# EAGLE library part MCP6022 (library PCB_KioskMB_r3.3-05)
OPAMP 10MHz Vofset=0.5V
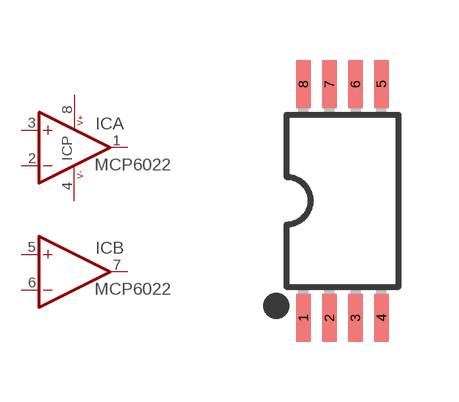
[diagram p16: symbol with the pads of TSSOP8; footprint TSSOP8]

Designator prefix IC; gates A=OPAMP B=OPAMP P=PWR+-

## MCP6022-I/ST  [TSSOP8]
1  A:OUT  out
2  A:-IN  in
3  A:+IN  in
4  P:V-  pwr
5  B:+IN  in
6  B:-IN  in
7  B:OUT  out
8  P:V+  pwr

## Footprint TSSOP8 (pad centres in mm)
Thin Shrink Small Outline Package package type ST
smd 0.35 x 1.2: 1 -0.975,-2.925; 2 -0.325,-2.925; 3 0.325,-2.925; 4 0.975,-2.925; 5 0.975,2.925; 6 0.325,2.925; 7 -0.325,2.925; 8 -0.975,2.925